# Altium footprint library optics.PcbLib: 67 footprints (part 4 of 5)
Each footprint in its own frame and in the unit in brackets; x right, y up, seen from the top. Pads: shape width x height; smd on the part's side, far side on the other; paste and mask are expansions set on the pad; w line width, h text height; cw(c..) or ccw(c..) is an arc to the next point about the centre after c.
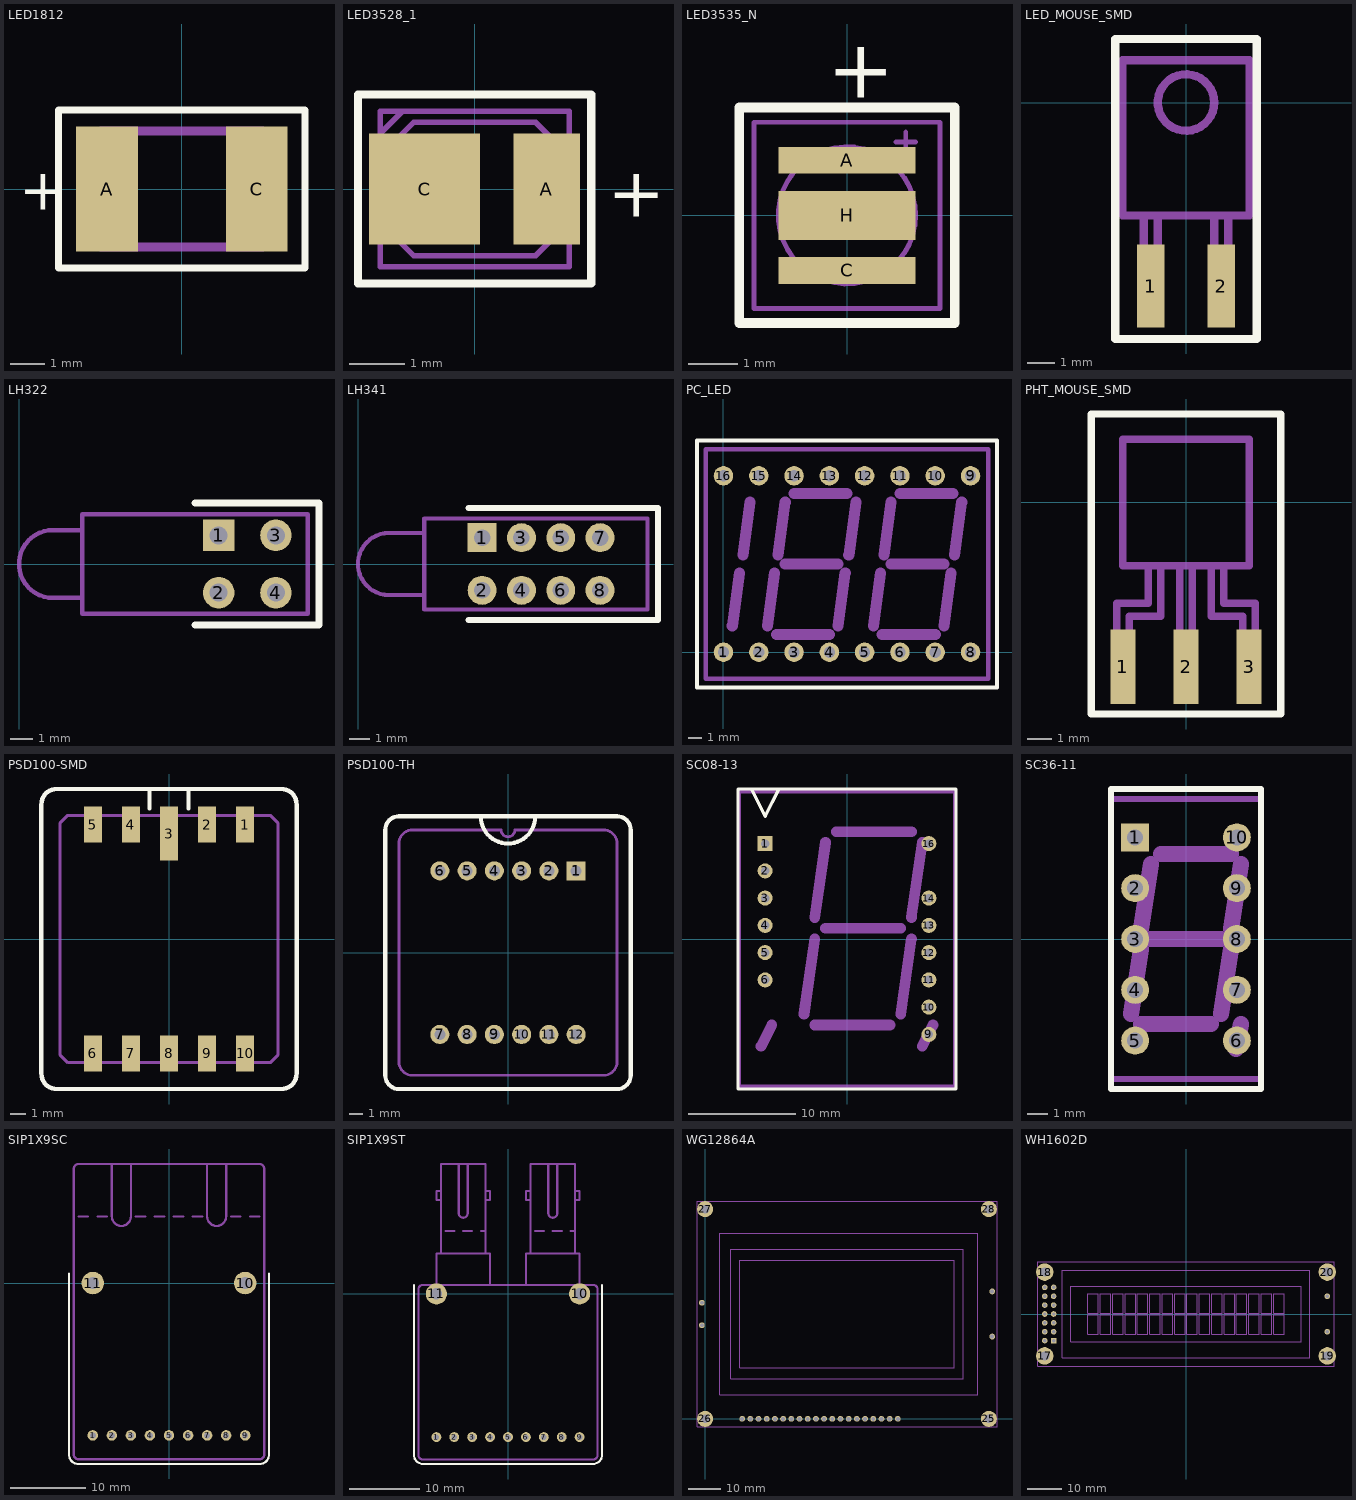
[diagram p3: the footprints below, top view; thin cyan lines are the x and y axes]

## LED1812 [mil]
pads (2):
  rect 70x142 smd: A(-85,0) C(85,0)
Top Overlay:
  lines w7.87: -140,-90 -140,90 140,90 140,-90 -140,-90
  text "+" at -185.04,-23.62 h47.24
Mechanical 1:
  lines w10: -92,-66 -92,66 92,66 92,-66 -92,-66

## LED3528_1 [mm]
height 0.8
pads (2):
  rect 1.2x2 smd paste-0.2: A(1.3,0)
  rect 2x2 smd paste-0.3: C(-0.9,0)
Top Overlay:
  lines w0.15: -2.1,-1.7 -2.1,1.7 2.1,1.7 2.1,-1.7 -2.1,-1.7
  text "+" at 2.4,-0.5 h0.9
Mechanical 1:
  lines w0.1: -1.7,1 -1.3,1.4 ; 0.9,0 1.3,0 ; 1.1,-0.2 1.1,0.2 ; -1.7,-1.4 -1.7,1.4 1.7,1.4 1.7,-1.4 -1.7,-1.4 ; -1.5,-0.8 -1.5,0.8 -1.1,1.2 1.1,1.2 1.5,0.8 1.5,-0.8 1.1,-1.2 -1.1,-1.2 -1.5,-0.8
3D body: height 0.7, standoff 0.3, extent -1.5,-1.2 1.5,1.2
3D body: height 0.6, standoff 0.1, extent -1.7,-1.4 1.7,1.4

## LED3535_N [mm]
height 2.8
pads (3):
  rect 2.8x0.55 smd paste-0.125: A(0,1.125) C(0,-1.125)
  rect 2.8x1 smd paste-0.25: H(0,0)
Top Overlay:
  lines w0.2: -2.2,-2.2 2.2,-2.2 2.2,2.2 -2.2,2.2 -2.2,-2.2
  text "+" at -0.4,2.4 h1.2
Mechanical 1:
  circle w0.1: c0,0 r1.4
  lines w0.1: 1,1.5 1.4,1.5 ; 1.2,1.3 1.2,1.7 ; -1.9,-1.9 1.9,-1.9 1.9,1.9 -1.9,1.9 -1.9,-1.9
3D body: height 2.8, standoff 0, extent -1.399,-1.4 1.399,1.4
3D body: height 1, standoff 0, extent -1.9,-1.9 1.9,1.9

## LED_MOUSE_SMD [mm]
pads (2):
  rect 1x3 smd: 1(-1.27,-6.604) 2(1.27,-6.604)
Top Overlay:
  lines w0.3: -2.54,-8.509 2.54,-8.509 2.54,2.286 -2.54,2.286 -2.54,-8.509
Mechanical 1:
  circle w0.3: c0,0 r1.016
  lines w0.3: -1.524,-4.064 -1.524,-7.112 -1.016,-7.112 -1.016,-4.064 ; 1.016,-4.064 1.016,-7.112 1.524,-7.112 1.524,-4.064 ; -2.286,-4.064 2.286,-4.064 2.286,1.524 -2.286,1.524 -2.286,-4.064

## LH322 [mm]
pads (4):
  rect 1.4x1.4 hole 0.8: 1(8.85,1.27)
  round 1.4 hole 0.8: 2(8.85,-1.27) 3(11.39,1.27) 4(11.39,-1.27)
Top Overlay:
  lines w0.3: 7.8,-2.7 13.3,-2.7 13.3,2.7 7.8,2.7
Mechanical 1:
  lines w0.2: 2.8,-1.5 1.5,-1.5 cw(c1.5,0) 1.5,1.5 2.8,1.5 ; 2.8,-2.2 2.8,2.2 12.8,2.2 12.8,-2.2 2.8,-2.2
3D body: height 9, standoff 6, extent 0.001,-1.5 2.998,1.5
3D body: height 4, standoff 1, extent 0.001,-1.5 2.998,1.5
3D body: height 10, standoff 0.1, extent 1.5,-2.2 12.8,2.2

## LH341 [mm]
height 20.4
pads (8):
  rect 1.4x1.4 hole 0.8: 1(6,1.27)
  round 1.4 hole 0.8: 2(6,-1.27) 3(7.9,1.27) 4(7.9,-1.27) 5(9.8,1.27) 6(9.8,-1.27) 7(11.7,1.27) 8(11.7,-1.27)
Top Overlay:
  lines w0.3: 5.334,-2.7 14.5,-2.7 14.5,2.7 5.334,2.7
Mechanical 1:
  lines w0.2: 3.2,-1.5 1.5,-1.5 cw(c1.5,0) 1.5,1.5 3.2,1.5 ; 3.2,-2.2 3.2,2.2 14,2.2 14,-2.2 3.2,-2.2
3D body: height 19.28, standoff 16.28, extent 0.001,-1.5 2.998,1.5
3D body: height 14.2, standoff 11.2, extent 0.001,-1.5 2.998,1.5
3D body: height 9.12, standoff 6.12, extent 0.001,-1.5 2.998,1.5
3D body: height 20.3, standoff 0.1, extent 1.5,-2.2 14,2.2
3D body: height 4.04, standoff 1.04, extent 0.001,-1.5 2.998,1.5

## PC_LED [mm]
pads (16):
  round 1.4 hole 0.8: 1(0,0) 2(2.54,0) 3(5.08,0) 4(7.62,0) 5(10.16,0) 6(12.7,0) 7(15.24,0) 8(17.78,0) 9(17.78,12.7) 10(15.24,12.7) 11(12.7,12.7) 12(10.16,12.7) 13(7.62,12.7) 14(5.08,12.7) 15(2.54,12.7) 16(0,12.7)
Top Overlay:
  lines w0.3: -1.905,-2.54 19.685,-2.54 19.685,15.24 -1.905,15.24 -1.905,-2.54
Mechanical 1:
  lines w0.3: -1.27,-1.905 19.05,-1.905 19.05,14.605 -1.27,14.605 -1.27,-1.905
  lines w0.8: 0.635,1.905 1.143,5.715 ; 1.397,6.985 1.905,10.795 ; 3.175,1.905 3.683,5.715 ; 3.81,1.27 7.62,1.27 ; 3.937,6.985 4.445,10.795 ; 4.445,6.35 8.255,6.35 ; 5.08,11.43 8.89,11.43 ; 8.255,1.905 8.763,5.715 ; 9.017,6.985 9.525,10.795 ; 10.795,1.905 11.303,5.715 ; 11.43,1.27 15.24,1.27 ; 11.557,6.985 12.065,10.795 ; 12.065,6.35 15.875,6.35 ; 12.7,11.43 16.51,11.43 ; 15.875,1.905 16.383,5.715 ; 16.637,6.985 17.145,10.795

## PHT_MOUSE_SMD [mm]
pads (3):
  rect 1x3 smd: 1(-2.54,-6.604) 2(0,-6.604) 3(2.54,-6.604)
Top Overlay:
  lines w0.3: -3.81,-8.509 -3.81,3.556 3.81,3.556 3.81,-8.509 -3.81,-8.509
Mechanical 1:
  lines w0.3: -1.524,-2.54 -1.524,-4.064 -2.794,-4.064 -2.794,-7.112 -2.286,-7.112 -2.286,-4.572 -1.016,-4.572 -1.016,-2.54 ; -0.254,-2.54 -0.254,-7.112 0.254,-7.112 0.254,-2.54 ; 1.016,-2.54 1.016,-4.572 2.286,-4.572 2.286,-7.112 2.794,-7.112 2.794,-4.064 1.524,-4.064 1.524,-2.54 ; -2.54,-2.54 -2.54,2.54 2.54,2.54 2.54,-2.54 -2.54,-2.54

## PSD100-SMD [mm]
height 1.3
pads (10):
  rect 1.2x2.4 smd: 1(5.08,7.62) 2(2.54,7.62) 4(-2.54,7.62) 5(-5.08,7.62) 6(-5.08,-7.62) 7(-2.54,-7.62) 8(0,-7.62) 9(2.54,-7.62) 10(5.08,-7.62)
  rect 1.2x3.6 smd: 3(0,7.02)
Top Overlay:
  lines w0.3: -1.3,8.7 -1.3,10 ; 1.3,8.7 1.3,10 ; -8.5,-9 ccw(c-7.5,-9) -7.5,-10 7.5,-10 ccw(c7.5,-9) 8.5,-9 8.5,9 ccw(c7.5,9) 7.5,10 -7.5,10 ccw(c-7.5,9) -8.5,9 -8.5,-9
Mechanical 1:
  lines w0.2: -7.25,-7.75 -6.75,-8.25 6.75,-8.25 7.25,-7.75 7.25,7.75 6.75,8.25 -6.75,8.25 -7.25,7.75 -7.25,-7.75
3D body: height 1, standoff 0.1, extent -7.25,-8.25 7.25,8.25
3D body: height 1.3, standoff 0.5, extent -5,-5 5,5

## PSD100-TH [mm]
height 3
pads (12):
  rect 1.4x1.4 hole 0.8: 1(5,6)
  round 1.4 hole 0.8: 2(3,6) 3(1,6) 4(-1,6) 5(-3,6) 6(-5,6) 7(-5,-6) 8(-3,-6) 9(-1,-6) 10(1,-6) 11(3,-6) 12(5,-6)
Top Overlay:
  lines w0.3: -2,10 ccw(c0,10) 2,10 ; -9,-9 ccw(c-8,-9) -8,-10 8,-10 ccw(c8,-9) 9,-9 9,9 ccw(c8,9) 8,10 -8,10 ccw(c-8,9) -9,9 -9,-9
Mechanical 1:
  lines w0.2: -8,-8 ccw(c-7,-8) -7,-9 7,-9 ccw(c7,-8) 8,-8 8,8 ccw(c7,8) 7,9 0.5,9 cw(c0,9) -0.5,9 -7,9 ccw(c-7,8) -8,8 -8,-8
3D body: height 3, standoff 2.6, extent -8.009,-9.009 8.009,9.009
3D body: height 2.5, standoff 1, extent -8.009,-9.009 8.009,9.009
3D body: height 2.7, standoff 2, extent -5,-5 5,5

## SC08-13 [mm]
height 8.5
pads (13):
  rect 1.4x1.4 hole 0.8: 1(-7.62,8.89)
  round 1.4 hole 0.8: 2(-7.62,6.35) 3(-7.62,3.81) 4(-7.62,1.27) 5(-7.62,-1.27) 6(-7.62,-3.81) 9(7.62,-8.89) 10(7.62,-6.35) 11(7.62,-3.81) 12(7.62,-1.27) 13(7.62,1.27) 14(7.62,3.81) 16(7.62,8.89)
Top Overlay:
  lines w0.3: -8.89,13.97 -7.62,11.43 -6.35,13.97 ; -10.16,-13.97 10.16,-13.97 10.16,13.97 -10.16,13.97 -10.16,-13.97
Mechanical 1:
  lines w0.3: -10,-13.716 10,-13.716 10,13.716 -10,13.716 -10,-13.716
  lines w1: -8,-10 -7,-8 ; -4,-7 -3,0 ; -3,-8 4,-8 ; -3,2 -2,9 ; -2,1 5,1 ; -1,10 6,10 ; 5,-7 6,0 ; 6,2 7,9 ; 7,-10 8,-8
3D body: height 8.5, standoff 0.5, extent -10,-13.716 10,13.716

## SC36-11 [mm]
height 8.5
pads (10):
  rect 1.4x1.4 hole 0.8: 1(-2.54,5.08)
  round 1.4 hole 0.8: 2(-2.54,2.54) 3(-2.54,0) 4(-2.54,-2.54) 5(-2.54,-5.08) 6(2.54,-5.08) 7(2.54,-2.54) 8(2.54,0) 9(2.54,2.54) 10(2.54,5.08)
Top Overlay:
  lines w0.3: -3.75,-7.5 3.75,-7.5 3.75,7.5 -3.75,7.5 -3.75,-7.5
Mechanical 1:
  lines w0.3: -3.75,-7 3.75,-7 3.75,7 -3.75,7 -3.75,-7
  lines w0.8: -2.75,-3.75 -2.25,-0.5 ; -2.25,-4.25 1.25,-4.25 ; -2.25,0.5 -1.75,3.75 ; -1.75,0 1.75,0 ; -1.25,4.25 2.25,4.25 ; 1.75,-3.75 2.25,-0.5 ; 2.25,0.5 2.75,3.75 ; 2.5,-5.5 2.75,-4.25
3D body: height 8.5, standoff 0.5, extent -3.75,-7 3.75,7

## SIP1X9SC [mm]
pads (11):
  round 1.4 hole 0.8: 1(-10.16,-20.32) 2(-7.62,-20.32) 3(-5.08,-20.32) 4(-2.54,-20.32) 5(0,-20.32) 6(2.54,-20.32) 7(5.08,-20.32) 8(7.62,-20.32) 9(10.16,-20.32)
  round 3 hole 1.6: 10(10.16,0) 11(-10.16,0)
Top Overlay:
  lines w0.3: -13.335,1.27 -13.335,-22.86 ccw(c-12.065,-22.86) -12.065,-24.13 12.065,-24.13 ccw(c12.065,-22.86) 13.335,-22.86 13.335,1.27
Mechanical 1:
  lines w0.3: -12.065,8.89 -10.795,8.89 ; -9.525,8.89 -8.255,8.89 ; -7.62,15.875 -7.62,8.89 ccw(c-6.35,8.89) -5.08,8.89 -5.08,15.875 ; -4.445,8.89 -3.175,8.89 ; -1.905,8.89 -0.635,8.89 ; 0.635,8.89 1.905,8.89 ; 3.175,8.89 4.445,8.89 ; 5.08,15.875 5.08,8.89 ccw(c6.35,8.89) 7.62,8.89 7.62,15.875 ; 8.255,8.89 9.525,8.89 ; 10.795,8.89 12.065,8.89 ; -12.7,-22.86 ccw(c-12.065,-22.86) -12.065,-23.495 12.065,-23.495 ccw(c12.065,-22.86) 12.7,-22.86 12.7,15.24 ccw(c12.065,15.24) 12.065,15.875 -12.065,15.875 ccw(c-12.065,15.24) -12.7,15.24 -12.7,-22.86

## SIP1X9ST [mm]
pads (11):
  round 1.4 hole 0.8: 1(-10.16,-20.32) 2(-7.62,-20.32) 3(-5.08,-20.32) 4(-2.54,-20.32) 5(0,-20.32) 6(2.54,-20.32) 7(5.08,-20.32) 8(7.62,-20.32) 9(10.16,-20.32)
  round 3 hole 1.6: 10(10.16,0) 11(-10.16,0)
Top Overlay:
  lines w0.3: -13.335,1.27 -13.335,-22.86 ccw(c-12.065,-22.86) -12.065,-24.13 12.065,-24.13 ccw(c12.065,-22.86) 13.335,-22.86 13.335,1.27
Mechanical 1:
  lines w0.3: -10.16,1.27 -10.16,5.715 -2.54,5.715 -2.54,1.27 ; -9.525,5.715 -9.525,18.415 -3.175,18.415 -3.175,5.715 ; -9.525,13.335 -10.16,13.335 -10.16,14.605 -9.525,14.605 ; -8.89,8.89 -7.62,8.89 ; -6.985,18.415 -6.985,11.43 ccw(c-6.35,11.43) -5.715,11.43 -5.715,18.415 ; -6.35,8.89 -5.08,8.89 ; -3.81,8.89 -3.175,8.89 ; -3.175,13.335 -2.54,13.335 -2.54,14.605 -3.175,14.605 ; 2.54,1.27 2.54,5.715 10.16,5.715 10.16,1.27 ; 3.175,5.715 3.175,18.415 9.525,18.415 9.525,5.715 ; 3.175,13.335 2.54,13.335 2.54,14.605 3.175,14.605 ; 3.81,8.89 5.08,8.89 ; 5.715,18.415 5.715,11.43 ccw(c6.35,11.43) 6.985,11.43 6.985,18.415 ; 6.35,8.89 7.62,8.89 ; 8.89,8.89 9.525,8.89 ; 9.525,13.335 10.16,13.335 10.16,14.605 9.525,14.605 ; -12.7,-22.86 ccw(c-12.065,-22.86) -12.065,-23.495 12.065,-23.495 ccw(c12.065,-22.86) 12.7,-22.86 12.7,0.635 ccw(c12.065,0.635) 12.065,1.27 -12.065,1.27 ccw(c-12.065,0.635) -12.7,0.635 -12.7,-22.86

## WG12864A [mm]
pads (28):
  round 1.8 hole 1.2: 1(59.76,0) 2(57.22,0) 3(54.68,0) 4(52.14,0) 5(49.6,0) 6(47.06,0) 7(44.52,0) 8(41.98,0) 9(39.44,0) 10(36.9,0) 11(34.36,0) 12(31.82,0) 13(29.28,0) 14(26.74,0) 15(24.2,0) 16(21.66,0) 17(19.12,0) 18(16.58,0) 19(14.04,0) 20(11.5,0) 21(-1,29) 22(-1,36) 23(89,39.5) 24(89,25.5)
  round 5 hole 2.6: 25(88,0) 26(0,0) 27(0,65) 28(88,65)
Mechanical 1:
  lines w0.25: -2.5,-2.5 90.5,-2.5 90.5,67.5 -2.5,67.5 -2.5,-2.5 ; 4.5,7.4 84.5,7.4 84.5,57.6 4.5,57.6 4.5,7.4 ; 8,12.5 80,12.5 80,52.5 8,52.5 8,12.5 ; 10.7,15.9 77.3,15.9 77.3,49.1 10.7,49.1 10.7,15.9

## WH1602D [mm]
pads (20):
  rect 1.6x1.6 hole 1: 1(-37.96,-7.62)
  round 1.6 hole 1: 2(-40.5,-7.62) 3(-37.96,-5.08) 4(-40.5,-5.08) 5(-37.96,-2.54) 6(-40.5,-2.54) 7(-37.96,0) 8(-40.5,0) 9(-37.96,2.54) 10(-40.5,2.54) 11(-37.96,5.08) 12(-40.5,5.08) 13(-37.96,7.62) 14(-40.5,7.62) 15(40.5,-5.08) 16(40.5,5.08)
  round 5 hole 2.6 unplated: 17(-40.5,-12) 18(-40.5,12) 19(40.5,-12) 20(40.5,12)
Mechanical 1:
  drawing of 156 lines, arcs and shapes, not listed